# Altium schematic symbol library ST.SchLib: 1 symbol
Pins are listed as number, name and electrical type; pins without a type are passive.

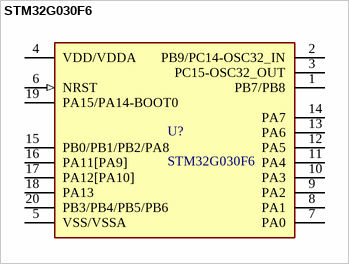
[diagram p0: symbol STM32G030F6]

## STM32G030F6
designator U?
Mainstream Value-Line Arm Cortex-M0+ MCU with 32 Kbytes of of Flash memory memory, 8 Kbytes RAM, 64 MHz CPU, 2x USART, timers, ADC, comm. I/F, 2-3.6V; Manufacturer: STM; Part Number: STM32G030F6; Value: STM32G030F6; Device Package: *; Mounting Type: SMT; Operating Temperature: *; Package / Case: *; Size / Dimension: *; Thickness (Max): *; Distributor link 1: https://www.digikey.com/en/products/detail/stmicroelectronics/STM32G030F6P6/10326686; Distributor link 2: *; Distributor link 3: *; Link: https://www.st.com/content/st_com/en/products/microcontrollers-microprocessors/stm32-32-bit-arm-cortex-mcus/stm32-mainstream-mcus/stm32g0-series/stm32g0x0-value-line/stm32g030f6.html
footprint TSSOP20
pins: 1 PB7/PB8, 2 PB9/PC14-OSC32_IN, 3 PC15-OSC32_OUT, 4 VDD/VDDA (power), 5 VSS/VSSA (power), 6 NRST (in), 7 PA0, 8 PA1, 9 PA2, 10 PA3, 11 PA4, 12 PA5, 13 PA6, 14 PA7, 15 PB0/PB1/PB2/PA8, 16 PA11[PA9], 17 PA12[PA10], 18 PA13, 19 PA15/PA14-BOOT0, 20 PB3/PB4/PB5/PB6